# Altium footprint library dev.PcbLib: 112 footprints (part 2 of 7)
Each footprint in its own frame and in the unit in brackets; x right, y up, seen from the top. Pads: shape width x height; smd on the part's side, far side on the other; paste and mask are expansions set on the pad; w line width, h text height; cw(c..) or ccw(c..) is an arc to the next point about the centre after c.
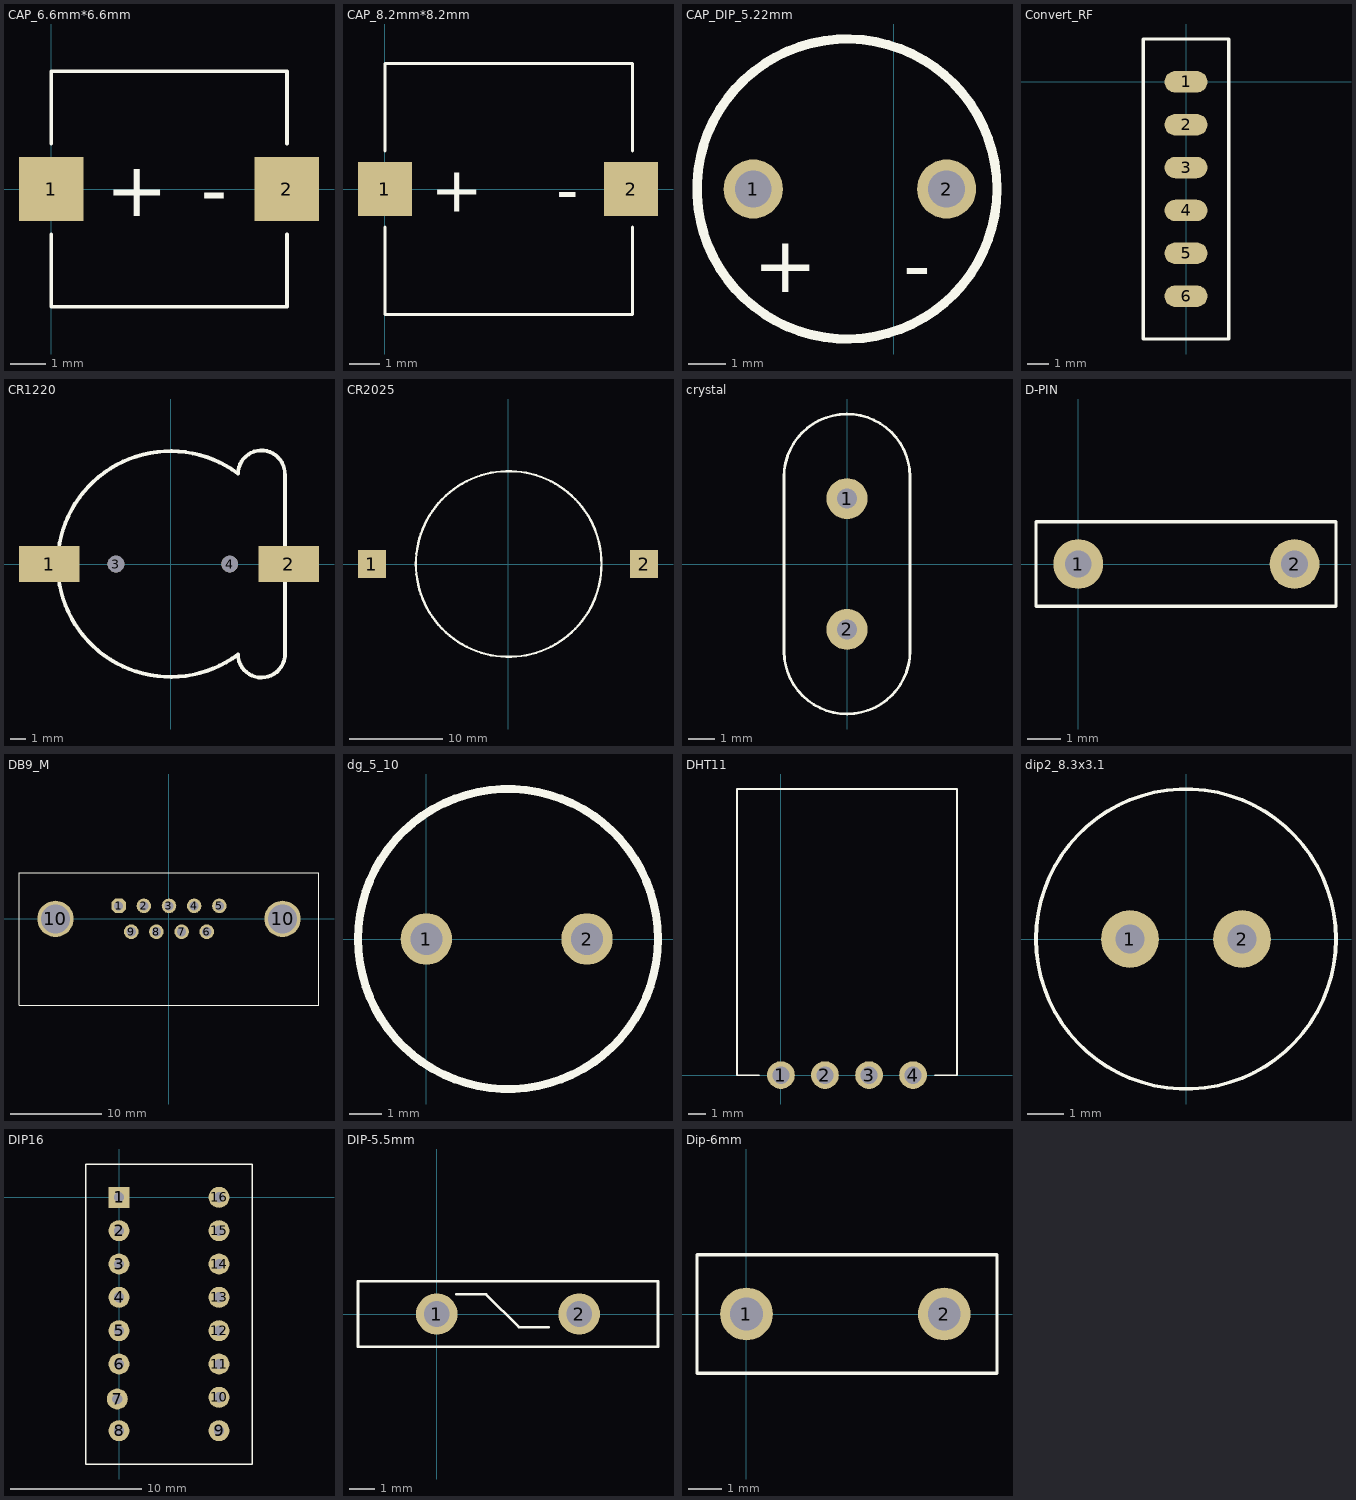
[diagram p1: the footprints below, top view; thin cyan lines are the x and y axes]

## BGA56x10 [mm]

## CAP_6.6mm*6.6mm [mm]
pads (2):
  rect 1.8x1.8 smd: 1(0,0) 2(6.6,0)
Top Overlay:
  lines w0.1: 0,-1.27 0,-3.302 6.604,-3.302 6.604,-1.27 ; 0,1.27 0,3.302 6.604,3.302 6.604,1.27
  text "-" at 4.191,-0.762 h1.52
  text "+" at 1.524,-0.762 h1.52

## CAP_8.2mm*8.2mm [mm]
pads (2):
  rect 1.8x1.8 smd: 1(0,0) 2(8.2,0)
Top Overlay:
  lines w0.1: 0,-1.27 0,-4.191 8.255,-4.191 8.255,-1.27 ; 0,1.27 0,4.191 8.255,4.191 8.255,1.27
  text "-" at 5.715,-0.762 h1.52
  text "+" at 1.524,-0.762 h1.52

## CAP_DIP_5.22mm [mm]
pads (2):
  round 1.6 hole 1: 1(-3.81,5.08) 2(1.43,5.08)
Top Overlay:
  circle w0.254: c-1.27,5.08 r4.064
  text "-" at 0.254,2.286 h1.52
  text "+" at -3.81,2.286 h1.52

## Convert_RF [mm]
pads (6):
  oval 2x1 smd: 1(0,0) 2(0,-2) 3(0,-4) 4(0,-6) 5(0,-8) 6(0,-10)
Top Overlay:
  lines w0.154: -2,-12 -2,0 -2,2 2,2 2,-12 -2,-12

## CR1220 [mm]
pads (4):
  rect 4x2.4 smd: 1(-8,0) 2(7.8,0)
  round 1.1 hole 1.1: 3(-3.6,0) 4(3.9,0)
Top Overlay:
  lines w0.254: 4.45,-6.008 ccw(c6.002,-5.94) 7.555,-5.969 ; 4.45,-5.975 cw(c0,0) 4.45,5.975 cw(c5.999,5.947) 7.546,5.881 7.546,-6.102

## CR2025 [mm]
pads (2):
  rect 3x3 smd: 1(-14.655,0) 2(14.655,0)
Top Overlay:
  circle w0.254: c0.077,0 r10

## crystal [mil]
pads (2):
  round 60 hole 30: 1(0,96.06) 2(0,-96.06)
Top Overlay:
  lines w3.94: 92.51,128.59 ccw(c0,127.56) -92.52,127.56 -92.52,-128.59 ccw(c0,-127.56) 92.52,-127.56 92.52,128.59 ; 92.51,128.59 92.52,128.59

## D-PIN [mm]
pads (2):
  round 1.5 hole 0.8: 1(0,0) 2(6.5,0)
Top Overlay:
  lines w0.1: -1.27,-1.27 3.175,-1.27 7.747,-1.27 7.747,1.27 3.175,1.27 -1.27,1.27 -1.27,-1.27

## DB9_M [mm]
pads (11):
  oct 1.6x1.6 hole 1: 1(-5.54,1.42)
  round 1.6 hole 1: 2(-2.77,1.42) 3(0,1.42) 4(2.77,1.42) 5(5.54,1.42) 6(4.155,-1.42) 7(1.385,-1.42) 8(-1.385,-1.42) 9(-4.155,-1.42)
  round 4 hole 3.2: 10(-12.495,0) 10(12.495,0)
Top Overlay:
  lines w0.1: -16.51,-9.52 16.51,-9.52 16.51,5.08 -16.51,5.08 -16.51,-9.52

## dg_5_10 [mm]
pads (2):
  round 1.6 hole 1: 1(0,0) 2(5,0)
Top Overlay:
  circle w0.254: c2.54,0 r4.67

## DHT11 [mm]
pads (4):
  round 1.6 hole 1: 1(0,0) 2(2.54,0) 3(5.08,0) 4(7.62,0)
Top Overlay:
  lines w0.1: -1.27,0 -2.54,0 -2.54,16.51 10.16,16.51 10.16,0 8.89,0

## dip2_8.3x3.1 [mm]
pads (2):
  round 1.6 hole 0.8: 1(-1.55,0) 2(1.55,0)
Top Overlay:
  circle w0.1: c0,0 r4.15

## DIP16 [mm]
pads (16):
  rect 1.6x1.6 hole 0.8: 1(0,0)
  round 1.6 hole 0.8: 2(0,-2.54) 3(0,-5.08) 4(0,-7.62) 5(0,-10.16) 6(0,-12.7) 7(-0.127,-15.367) 8(0,-17.78) 9(7.62,-17.78) 10(7.62,-15.24) 11(7.62,-12.7) 12(7.62,-10.16) 13(7.62,-7.62) 14(7.62,-5.08) 15(7.62,-2.54) 16(7.62,0)
Top Overlay:
  lines w0.1: -2.54,-20.32 10.16,-20.32 10.16,2.54 0,2.54 -2.54,2.54 -2.54,-20.32

## DIP-5.5mm [mm]
pads (2):
  round 1.6 hole 1: 1(0,0) 2(5.5,0)
Top Overlay:
  lines w0.1: -3.042,-1.26 -3.042,1.27 8.542,1.27 8.542,-1.27 -2.987,-1.27 ; -2.987,1.26 -2.977,1.27 ; 0.762,0.762 1.905,0.762 3.175,-0.508 4.318,-0.508

## Dip-6mm [mm]
pads (2):
  round 1.6 hole 1: 1(0,0) 2(6,0)
Top Overlay:
  lines w0.1: -1.5,-1.8 7.6,-1.8 7.6,1.8 -1.5,1.8 -1.5,-1.8